# Altium schematic symbol library Schlib1.SchLib: 23 symbols
Pins are listed as number, name and electrical type; pins without a type are passive.

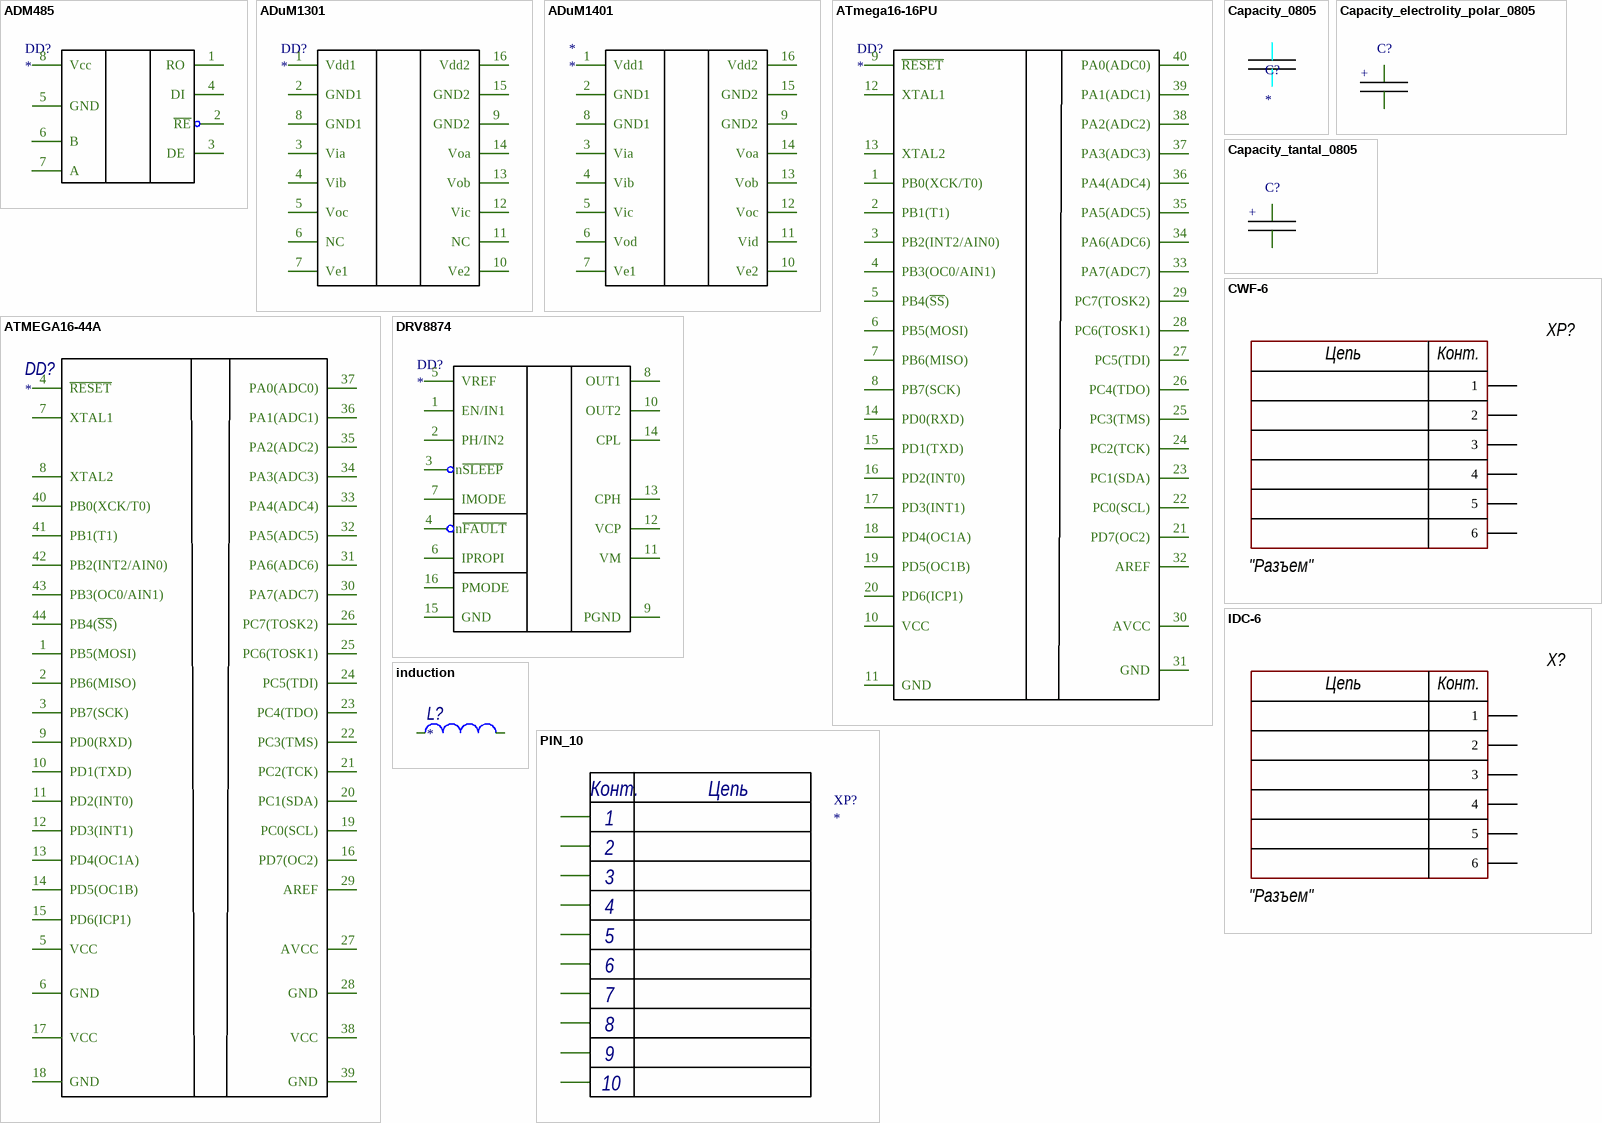
[diagram p0: symbols ADM485 to PIN_10]

## ADM485
designator DD?
footprint SOIC_N8 (REF198, ADM485) (SOIC, 8-Leads, Body 4,90x3,90mm, Pitch 1,27mm, IPC Medium Density)
pins: 1 RO, 2 ~{RE}, 3 DE, 4 DI, 5 GND, 6 B, 7 A, 8 Vcc

## ADuM1301
designator DD?
footprint ADUM_SOIC
pins: 1 Vdd1, 2 GND1, 3 Via, 4 Vib, 5 Voc, 6 NC, 7 Ve1, 8 GND1, 9 GND2, 10 Ve2, 11 NC, 12 Vic, 13 Vob, 14 Voa, 15 GND2, 16 Vdd2

## ADuM1401
designator *
footprint ADUM_SOIC
pins: 1 Vdd1, 2 GND1, 3 Via, 4 Vib, 5 Vic, 6 Vod, 7 Ve1, 8 GND1, 9 GND2, 10 Ve2, 11 Vid, 12 Voc, 13 Vob, 14 Voa, 15 GND2, 16 Vdd2

## ATmega16-16PU
designator DD?
footprint ATMEGA16_DIP40
pins: 1 PB0(XCK/T0), 2 PB1(T1), 3 PB2(INT2/AIN0), 4 PB3(OC0/AIN1), 5 PB4(~{SS}), 6 PB5(MOSI), 7 PB6(MISO), 8 PB7(SCK), 9 ~{RESET}, 10 VCC, 11 GND, 12 XTAL1, 13 XTAL2, 14 PD0(RXD), 15 PD1(TXD), 16 PD2(INT0), 17 PD3(INT1), 18 PD4(OC1A), 19 PD5(OC1B), 20 PD6(ICP1), 21 PD7(OC2), 22 PC0(SCL), 23 PC1(SDA), 24 PC2(TCK), 25 PC3(TMS), 26 PC4(TDO), 27 PC5(TDI), 28 PC6(TOSK1), 29 PC7(TOSK2), 30 AVCC, 31 GND, 32 AREF, 33 PA7(ADC7), 34 PA6(ADC6), 35 PA5(ADC5), 36 PA4(ADC4), 37 PA3(ADC3), 38 PA2(ADC2), 39 PA1(ADC1), 40 PA0(ADC0)

## ATMEGA16-44A
designator DD?
footprint ATMEGA16-44A
pins: 1 PB5(MOSI), 2 PB6(MISO), 3 PB7(SCK), 4 ~{RESET}, 5 VCC, 6 GND, 7 XTAL1, 8 XTAL2, 9 PD0(RXD), 10 PD1(TXD), 11 PD2(INT0), 12 PD3(INT1), 13 PD4(OC1A), 14 PD5(OC1B), 15 PD6(ICP1), 16 PD7(OC2), 17 VCC, 18 GND, 19 PC0(SCL), 20 PC1(SDA), 21 PC2(TCK), 22 PC3(TMS), 23 PC4(TDO), 24 PC5(TDI), 25 PC6(TOSK1), 26 PC7(TOSK2), 27 AVCC, 28 GND, 29 AREF, 30 PA7(ADC7), 31 PA6(ADC6), 32 PA5(ADC5), 33 PA4(ADC4), 34 PA3(ADC3), 35 PA2(ADC2), 36 PA1(ADC1), 37 PA0(ADC0), 38 VCC, 39 GND, 40 PB0(XCK/T0), 41 PB1(T1), 42 PB2(INT2/AIN0), 43 PB3(OC0/AIN1), 44 PB4(~{SS})

## Capacity_0805
designator C?
footprint Capacitor_0805
pins: 1, 2

## Capacity_electrolity_polar_0805
designator C?
electrolity capacitor; link: https://www.digikey.com/en/products/detail/taiyo-yuden/JMK212BJ106KD-T/930656
footprint CAPAE4643X46M (Aluminum Electrolytic Capacitor, Body 4,30x4,30x4,60mm, IPC Low Density)
pins: 1, 2
text: +

## Capacity_tantal_0805
designator C?
tanral capacitor
footprint Capacitor_tant_0805
pins: 1, 2
text: +

## CWF-6
designator XP?  CommentText: "Разъем"
Manufacturer: Connfly; ValueManufacturerPartNumber: Connector, 6pin, 2.54mm, 500VAC, 3A; PartNumber: PLS-6; TypeConnector: Connector; VoltageMax: 500VAC; Pitch: 2.54mm; CurrentMax: 3A; Multichannel: 6pin; HelpURL: https://www.chipdip.ru/product/pls-6
footprint CON: CWF-6
pins: 1, 2, 3 (power), 4 (power), 5 (power), 6 (power)
text: Цепь; Конт.

## DRV8874
designator DD?
footprint DRV8874_TSOP127P600-8N
pins: 1 EN/IN1, 2 PH/IN2, 3 n~{SLEEP}, 4 n~{FAULT}, 5 VREF, 6 IPROPI, 7 IMODE, 8 OUT1, 9 PGND, 10 OUT2, 11 VM, 12 VCP, 13 CPH, 14 CPL, 15 GND, 16 PMODE

## IDC-6
designator X?  CommentText: "Разъем"
Manufacturer: Connfly; ValueManufacturerPartNumber: Connector, 6pin, 2.54mm, 500VAC, 3A; PartNumber: PLS-6; TypeConnector: Connector; VoltageMax: 500VAC; Pitch: 2.54mm; CurrentMax: 3A; Multichannel: 6pin; HelpURL: https://www.chipdip.ru/product/pls-6
footprint CON: IDC-6MS (IDC-6MS 6 pin PCB-mount connector)
pins: 1, 2, 3 (power), 4 (power), 5 (power), 6 (power)
text: Цепь; Конт.

## induction
designator L?
pins: 1   , 2

## PIN_10
designator XP?
https://www.chipdip.ru/product/tyco-1-640457-0; ComponentLink1Description: New link; ComponentLink1URL: *
footprint fpc_connector_10 (10 pin)
pins: 1, 2, 3, 4, 5, 6, 7, 8, 9, 10
text: Конт.; Цепь

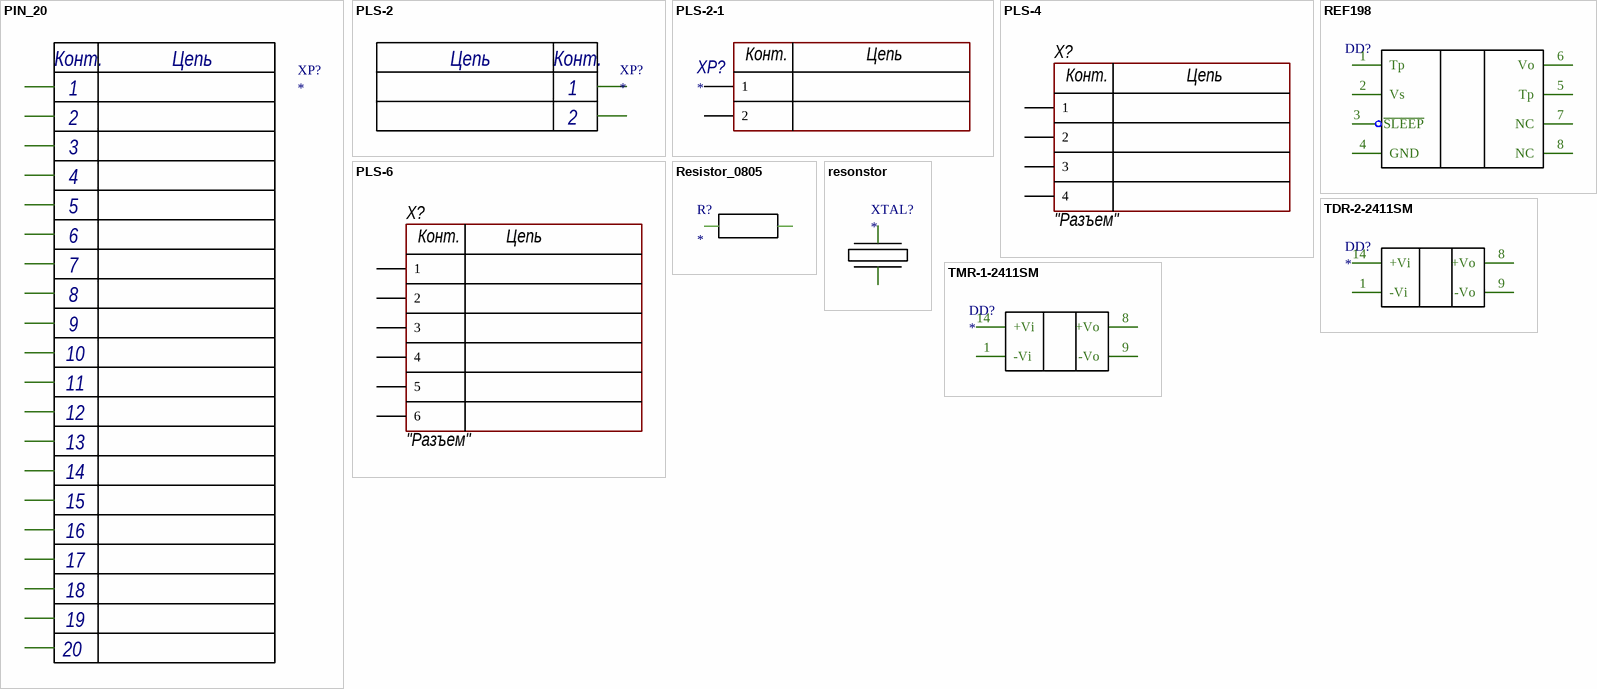
[diagram p1: symbols PIN_20 to TMR-1-2411SM]

## PIN_20
designator XP?
pins: 1, 2, 3, 4, 5, 6, 7, 8, 9, 10, 11, 12, 13, 14, 15, 16, 17, 18, 19, 20, 23
text: Конт.; Цепь

## PLS-2
designator XP?
https://www.chipdip.ru/product/wf-2r
footprint CON: PLS-2
pins: 1, 2
text: Цепь; Конт.

## PLS-2-1
designator XP?
footprint CON: PLS-2
pins: 1, 2
text: Конт.; Цепь

## PLS-4
designator X?  CommentText: "Разъем"
Manufacturer: Connfly; ValueManufacturerPartNumber: Connector, 4pin, 2.54mm, 500VAC, 3A; PartNumber: PLS-4; TypeConnector: Connector; VoltageMax: 500VAC; Pitch: 2.54mm; CurrentMax: 3A; Multichannel: 4pin; HelpURL: https://www.chipdip.ru/product/pls-4
footprint CON: PLS-4 (PLS-40 4 pin header)
pins: 1, 2, 3 (power), 4 (power)
text: Конт.; Цепь

## PLS-6
designator X?  CommentText: "Разъем"
Manufacturer: Connfly; ValueManufacturerPartNumber: Connector, 6pin, 2.54mm, 500VAC, 3A; PartNumber: PLS-6; TypeConnector: Connector; VoltageMax: 500VAC; Pitch: 2.54mm; CurrentMax: 3A; Multichannel: 6pin; HelpURL: https://www.chipdip.ru/product/pls-6
footprint CON: PLS-6
pins: 1, 2, 3 (power), 4 (power), 5 (power), 6 (power)
text: Конт.; Цепь

## REF198
designator DD?
footprint SOIC_N8 (REF198, ADM485) (SOIC, 8-Leads, Body 4,90x3,90mm, Pitch 1,27mm, IPC Medium Density)
pins: 1 Tp, 2 Vs, 3 ~{SLEEP}, 4 GND, 5 Tp, 6 Vo, 7 NC, 8 NC

## Resistor_0805
designator R?
footprint resistor_0805 (ЧИП-резистор типоразмера 0805)
pins: 0, 1

## resonstor
designator XTAL?
footprint Z_0503
pins: 1, 2

## TDR-2-2411SM
designator DD?
footprint TMR1SM_SMD
pins: 1 -Vi, 8 +Vo, 9 -Vo, 14 +Vi

## TMR-1-2411SM
designator DD?
footprint TMR1SM_SMD
pins: 1 -Vi, 8 +Vo, 9 -Vo, 14 +Vi